# Altium integrated library WD Peripheral Memory Controller.IntLib: 1 symbol
Pins are listed as number, name and electrical type; pins without a type are passive.

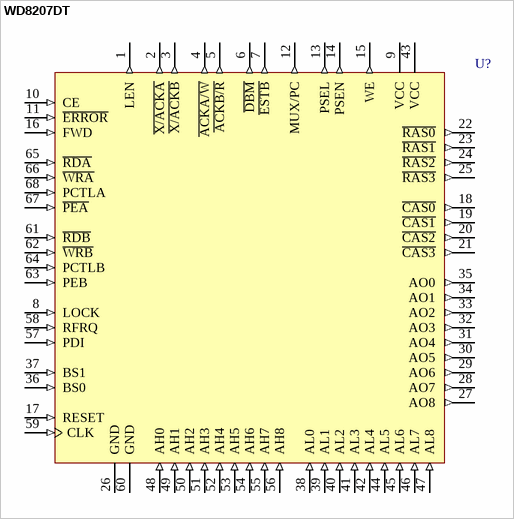
[diagram p0: symbol WD8207DT]

## WD8207DT
designator U?
Advance Dynamic RAM Controller; PackageDocument: 1986; Published: 8-Jun-2000; LatestRevisionDate: 17-Jul-2002; LatestRevisionNote: Re-released for DXP Platform.; DatasheetDocument: 1984; PackageReference: DT68; Publisher: Altium Limited; ComponentLink1Description: Manufacturer Link; ComponentLink1URL: http://www.wdc.com/
footprint DT68 (Leadless Chip Carrier; 68 Terminals; Body 24.1 x 24.1 mm)
pins: 1 LEN (out), 2 ~{X/ACKA} (out), 3 ~{X/ACKB} (out), 4 ~{ACKA/W} (out), 5 ~{ACKB/R} (out), 6 ~{DBM} (out), 7 ~{ESTB} (out), 8 LOCK (in), 9 VCC (power), 10 CE (in), 11 ~{ERROR} (in), 12 MUX/PC (out), 13 PSEL (out), 14 PSEN (out), 15 WE (out), 16 FWD (in), 17 RESET (in), 18 ~{CAS0} (out), 19 ~{CAS1} (out), 20 ~{CAS2} (out), 21 ~{CAS3} (out), 22 ~{RAS0} (out), 23 ~{RAS1} (out), 24 ~{RAS2} (out), 25 ~{RAS3} (out), 26 GND (power), 27 AO8 (out), 28 AO7 (out), 29 AO6 (out), 30 AO5 (out), 31 AO4 (out), 32 AO3 (out), 33 AO2 (out), 34 AO1 (out), 35 AO0 (out), 36 BS0 (in), 37 BS1 (in), 38 AL0 (in), 39 AL1 (in), 40 AL2 (in), 41 AL3 (in), 42 AL4 (in), 43 VCC (power), 44 AL5 (in), 45 AL6 (in), 46 AL7 (in), 47 AL8 (in), 48 AH0 (in), 49 AH1 (in), 50 AH2 (in), 51 AH3 (in), 52 AH4 (in), 53 AH5 (in), 54 AH6 (in), 55 AH7 (in), 56 AH8 (in), 57 PDI (in), 58 RFRQ (in), 59 CLK (in), 60 GND (power), 61 ~{RDB} (in), 62 ~{WRB} (in), 63 PEB (in), 64 PCTLB (in), 65 ~{RDA} (in), 66 ~{WRA} (in), 67 ~{PEA} (in), 68 PCTLA (in)